# Altium footprint library APC-817B1-SL.PcbLib: 3 footprints
Each footprint in its own frame and in the unit in brackets; x right, y up, seen from the top. Pads: shape width x height; smd on the part's side, far side on the other; paste and mask are expansions set on the pad; w line width, h text height; cw(c..) or ccw(c..) is an arc to the next point about the centre after c.
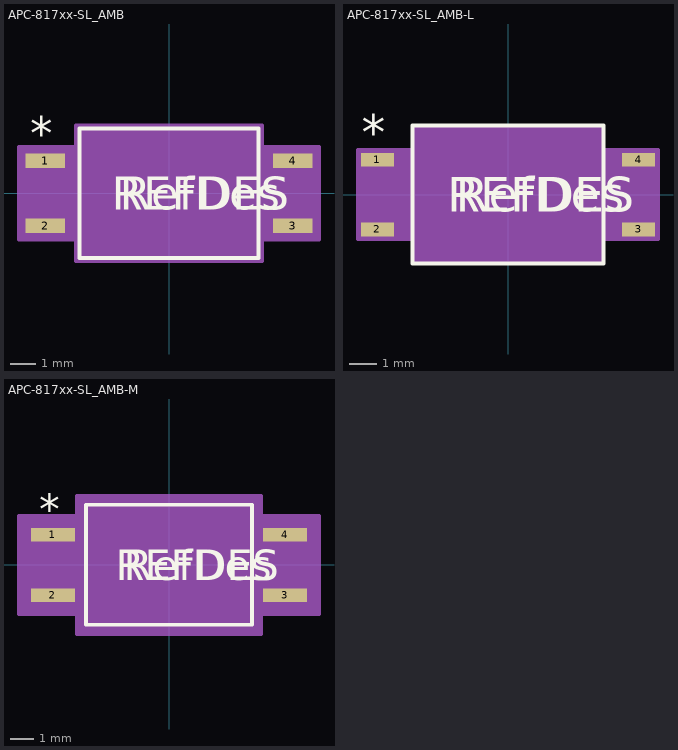
[diagram p0: the footprints below, top view; thin cyan lines are the x and y axes]

## APC-817xx-SL_AMB [mil]
pads (4):
  rect 60x22 smd paste+0 mask+0: 1(-189.5,50) 2(-189.5,-50) 3(189.5,-50) 4(189.5,50)
Top Overlay:
  lines w6: -137,-99 137,-99 137,99 -137,99 -137,-99
  text "REFDES" at -87.5,-25 h50
  text "*" at -212,67 h50
  text "RefDes" at -75,-25 h50
Mechanical 13:
  lines w0: -12,94 ccw(c0,94) 12,94
  lines w1: -205.5,-60 -205.5,-40 -132,-40 -132,-60 -205.5,-60 ; -205.5,40 -205.5,60 -132,60 -132,40 -205.5,40 ; -132,-94 132,-94 132,94 -132,94 -132,-94 ; 132,-60 132,-40 205.5,-40 205.5,-60 132,-60 ; 132,40 132,60 205.5,60 205.5,40 132,40
  text "*" at -129.5,41 h50
  text "RefDes2" at -87.5,-25 h50
Mechanical 15:
  region: -142,-71 -229.5,-71 -229.5,71 -142,71 -142,104 142,104 142,71 229.5,71 229.5,-71 142,-71 142,-104 -142,-104
  lines w6: -229.5,-71 -229.5,71 -142,71 -142,104 142,104 142,71 229.5,71 229.5,-71 142,-71 142,-104 -142,-104 -142,-71 -229.5,-71
3D body "APC-817xx-SL_AMB.step": height 150.12, standoff 0, extent -205.51,-94.02 205.51,94.02

## APC-817xx-SL_AMB-L [mil]
pads (4):
  rect 48x20 smd paste+0 mask+0: 1(-187.5,50) 2(-187.5,-50) 3(187.5,-50) 4(187.5,50)
Top Overlay:
  lines w6: -137,-99 137,-99 137,99 -137,99 -137,-99
  text "REFDES" at -87.5,-25 h50
  text "*" at -210,65 h50
  text "RefDes" at -75,-25 h50
Mechanical 13:
  lines w0: -12,94 ccw(c0,94) 12,94
  lines w1: -205.5,-60 -205.5,-40 -132,-40 -132,-60 -205.5,-60 ; -205.5,40 -205.5,60 -132,60 -132,40 -205.5,40 ; -132,-94 132,-94 132,94 -132,94 -132,-94 ; 132,-60 132,-40 205.5,-40 205.5,-60 132,-60 ; 132,40 132,60 205.5,60 205.5,40 132,40
  text "*" at -129.5,41 h50
  text "RefDes2" at -87.5,-25 h50
Mechanical 15:
  region: -136,-64 -215.5,-64 -215.5,64 -136,64 -136,98 136,98 136,64 215.5,64 215.5,-64 136,-64 136,-98 -136,-98
  lines w6: -215.5,-64 -215.5,64 -136,64 -136,98 136,98 136,64 215.5,64 215.5,-64 136,-64 136,-98 -136,-98 -136,-64 -215.5,-64
3D body "APC-817xx-SL_AMB.step": height 150.12, standoff 0, extent -205.51,-94.02 205.51,94.02

## APC-817xx-SL_AMB-M [mil]
pads (4):
  rect 72x22 smd paste+0 mask+0: 1(-191.5,50) 2(-191.5,-50) 3(191.5,-50) 4(191.5,50)
Top Overlay:
  lines w6: -137,-99 137,-99 137,99 -137,99 -137,-99
  text "REFDES" at -87.5,-25 h50
  text "*" at -214,67 h50
  text "RefDes" at -75,-25 h50
Mechanical 13:
  lines w0: -12,94 ccw(c0,94) 12,94
  lines w1: -205.5,-60 -205.5,-40 -132,-40 -132,-60 -205.5,-60 ; -205.5,40 -205.5,60 -132,60 -132,40 -205.5,40 ; -132,-94 132,-94 132,94 -132,94 -132,-94 ; 132,-60 132,-40 205.5,-40 205.5,-60 132,-60 ; 132,40 132,60 205.5,60 205.5,40 132,40
  text "*" at -129.5,41 h50
  text "RefDes2" at -87.5,-25 h50
Mechanical 15:
  region: -152,-81 -247.5,-81 -247.5,81 -152,81 -152,114 152,114 152,81 247.5,81 247.5,-81 152,-81 152,-114 -152,-114
  lines w6: -247.5,-81 -247.5,81 -152,81 -152,114 152,114 152,81 247.5,81 247.5,-81 152,-81 152,-114 -152,-114 -152,-81 -247.5,-81
3D body "APC-817xx-SL_AMB.step": height 150.12, standoff 0, extent -205.51,-94.02 205.51,94.02